# Altium integrated library NSC Voltage Reference.IntLib: 777 symbols (part 12 of 20)
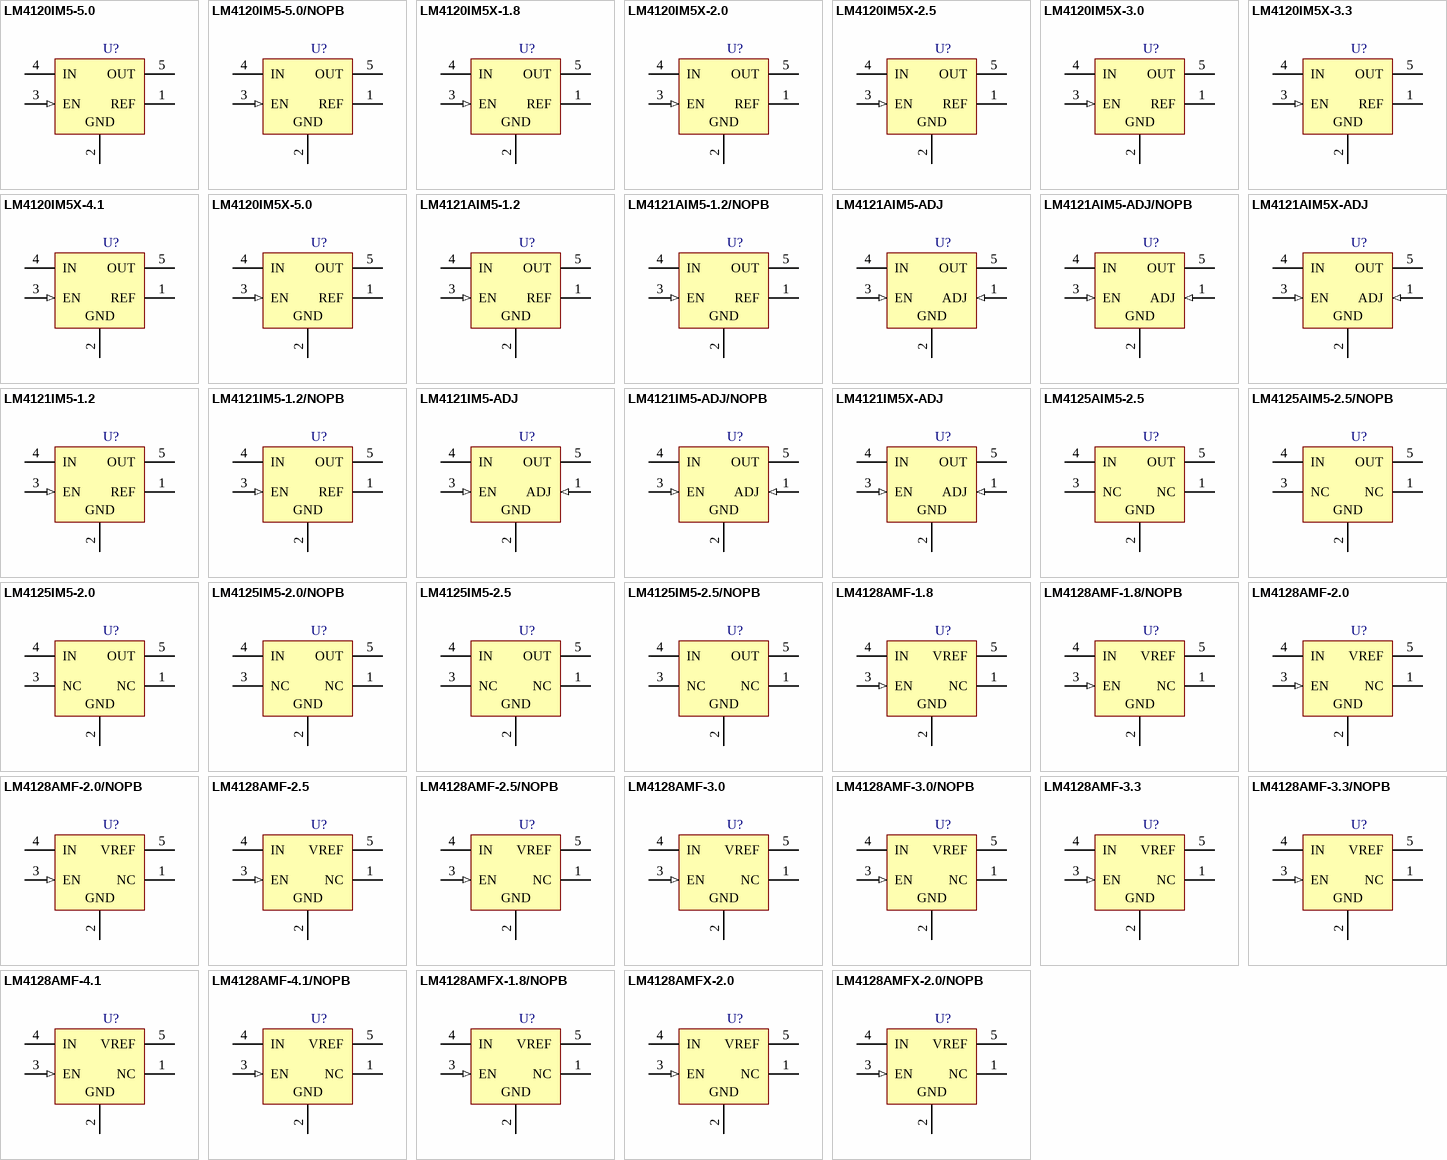
[diagram p31: symbols LM4120IM5-5.0 to LM4128AMFX-2.0/NOPB]

## LM4120IM5X-3.3
designator U?
Precision Micropower Low Dropout Voltage Reference, 5-pin SOT-23; PartNumber: LM4120IM5X-3.3; Manufacturer: National Semiconductor; PackageTopMarking: R16B*XTT; PowerWise: Y; CompType: Voltage Reference IC; Published: 1-Mar-2010; DatasheetVersion: Mar-2005; PackageVersion: revD, Aug-2008; PackageReference: MF05A; Publisher: Altium Limited; PackageDescription: Molded SOT-23, .115 x .063 x .040 in Body, 5 Lead, .0375 in Pitch; RoHS: N; PinCount: 5; ComponentLink1Description: LM4120 Datasheet; ComponentLink1URL: http://www.national.com/ds/LM/LM4120.pdf; ComponentLink2Description: LM4120 Web Page; ComponentLink2URL: http://www.national.com/pf/LM/LM4120.html; ComponentLink3Description: MF05A Package Page; ComponentLink3URL: http://www.national.com/packaging/folders/mf05a.html
footprint MF05A_N (SOT23, 5-Leads, Body 2.9x1.6mm, Pitch 0.95mm, Lead Span 2.8mm, IPC Medium Density)
footprint MF05A_L (SOT23, 5-Leads, Body 2.9x1.6mm, Pitch 0.95mm, Lead Span 2.8mm, IPC High Density)
footprint MF05A_M (SOT23, 5-Leads, Body 2.9x1.6mm, Pitch 0.95mm, Lead Span 2.8mm, IPC Low Density)
pins: 1 REF, 2 GND (power), 3 EN (in), 4 IN (power), 5 OUT (power)

## LM4120IM5X-4.1
designator U?
Precision Micropower Low Dropout Voltage Reference, 5-pin SOT-23; PartNumber: LM4120IM5X-4.1; Manufacturer: National Semiconductor; PackageTopMarking: R17B*XTT; PowerWise: Y; CompType: Voltage Reference IC; Published: 1-Mar-2010; DatasheetVersion: Mar-2005; PackageVersion: revD, Aug-2008; PackageReference: MF05A; Publisher: Altium Limited; PackageDescription: Molded SOT-23, .115 x .063 x .040 in Body, 5 Lead, .0375 in Pitch; RoHS: N; PinCount: 5; ComponentLink1Description: LM4120 Datasheet; ComponentLink1URL: http://www.national.com/ds/LM/LM4120.pdf; ComponentLink2Description: LM4120 Web Page; ComponentLink2URL: http://www.national.com/pf/LM/LM4120.html; ComponentLink3Description: MF05A Package Page; ComponentLink3URL: http://www.national.com/packaging/folders/mf05a.html
footprint MF05A_N (SOT23, 5-Leads, Body 2.9x1.6mm, Pitch 0.95mm, Lead Span 2.8mm, IPC Medium Density)
footprint MF05A_L (SOT23, 5-Leads, Body 2.9x1.6mm, Pitch 0.95mm, Lead Span 2.8mm, IPC High Density)
footprint MF05A_M (SOT23, 5-Leads, Body 2.9x1.6mm, Pitch 0.95mm, Lead Span 2.8mm, IPC Low Density)
pins: 1 REF, 2 GND (power), 3 EN (in), 4 IN (power), 5 OUT (power)

## LM4120IM5X-5.0
designator U?
Precision Micropower Low Dropout Voltage Reference, 5-pin SOT-23; PartNumber: LM4120IM5X-5.0; Manufacturer: National Semiconductor; PackageTopMarking: R18B*XTT; PowerWise: Y; CompType: Voltage Reference IC; Published: 1-Mar-2010; DatasheetVersion: Mar-2005; PackageVersion: revD, Aug-2008; PackageReference: MF05A; Publisher: Altium Limited; PackageDescription: Molded SOT-23, .115 x .063 x .040 in Body, 5 Lead, .0375 in Pitch; RoHS: N; PinCount: 5; ComponentLink1Description: LM4120 Datasheet; ComponentLink1URL: http://www.national.com/ds/LM/LM4120.pdf; ComponentLink2Description: LM4120 Web Page; ComponentLink2URL: http://www.national.com/pf/LM/LM4120.html; ComponentLink3Description: MF05A Package Page; ComponentLink3URL: http://www.national.com/packaging/folders/mf05a.html
footprint MF05A_N (SOT23, 5-Leads, Body 2.9x1.6mm, Pitch 0.95mm, Lead Span 2.8mm, IPC Medium Density)
footprint MF05A_L (SOT23, 5-Leads, Body 2.9x1.6mm, Pitch 0.95mm, Lead Span 2.8mm, IPC High Density)
footprint MF05A_M (SOT23, 5-Leads, Body 2.9x1.6mm, Pitch 0.95mm, Lead Span 2.8mm, IPC Low Density)
pins: 1 REF, 2 GND (power), 3 EN (in), 4 IN (power), 5 OUT (power)

## LM4121AIM5-1.2
designator U?
Precision Micropower Low Dropout Voltage Reference, 5-pin SOT-23; PartNumber: LM4121AIM5-1.2; Manufacturer: National Semiconductor; PackageTopMarking: R19A*XTT; PowerWise: Y; CompType: Voltage Reference IC; Published: 4-Dec-2008; DatasheetVersion: Apr-2000; PackageVersion: revD, Aug-2008; PackageReference: MF05A; Publisher: Altium Limited; PackageDescription: Molded SOT-23, .115 x .063 x .040 in Body, 5 Lead, .0375 in Pitch; RoHS: N; PinCount: 5; ComponentLink1Description: LM4121 Datasheet; ComponentLink1URL: http://www.national.com/ds/LM/LM4121.pdf; ComponentLink2Description: LM4121 Web Page; ComponentLink2URL: http://www.national.com/pf/LM/LM4121.html; ComponentLink3Description: MF05A Package Page; ComponentLink3URL: http://www.national.com/packaging/folders/mf05a.html
footprint MF05A_N (SOT23, 5-Leads, Body 2.9x1.6mm, Pitch 0.95mm, Lead Span 2.8mm, IPC Medium Density)
footprint MF05A_L (SOT23, 5-Leads, Body 2.9x1.6mm, Pitch 0.95mm, Lead Span 2.8mm, IPC High Density)
footprint MF05A_M (SOT23, 5-Leads, Body 2.9x1.6mm, Pitch 0.95mm, Lead Span 2.8mm, IPC Low Density)
pins: 1 REF, 2 GND (power), 3 EN (in), 4 IN (power), 5 OUT (power)

## LM4121AIM5-1.2/NOPB
designator U?
Precision Micropower Low Dropout Voltage Reference, 5-pin SOT-23, Pb-Free; PartNumber: LM4121AIM5-1.2/NOPB; Manufacturer: National Semiconductor; PackageTopMarking: R19A*XTT; PowerWise: Y; CompType: Voltage Reference IC; Published: 1-Mar-2010; DatasheetVersion: Apr-2000; PackageVersion: revD, Aug-2008; PackageReference: MF05A; Publisher: Altium Limited; PackageDescription: Molded SOT-23, .115 x .063 x .040 in Body, 5 Lead, .0375 in Pitch; Supplier 1: Digi-Key; Supplier Part Number 1: LM4121AIM5-1.2TR-ND; Supplier 2: Digi-Key; Supplier Part Number 2: LM4121AIM5-1.2CT-ND; Supplier 3: Digi-Key; Supplier Part Number 3: LM4121AIM5-1.2DKR-ND; Supplier 4: Farnell; Supplier Part Number 4: 1674008; RoHS: Y; PinCount: 5; ComponentLink1Description: LM4121 Datasheet; ComponentLink1URL: http://www.national.com/ds/LM/LM4121.pdf; ComponentLink2Description: LM4121 Web Page; ComponentLink2URL: http://www.national.com/pf/LM/LM4121.html; ComponentLink3Description: MF05A Package Page; ComponentLink3URL: http://www.national.com/packaging/folders/mf05a.html
footprint MF05A_N (SOT23, 5-Leads, Body 2.9x1.6mm, Pitch 0.95mm, Lead Span 2.8mm, IPC Medium Density)
footprint MF05A_L (SOT23, 5-Leads, Body 2.9x1.6mm, Pitch 0.95mm, Lead Span 2.8mm, IPC High Density)
footprint MF05A_M (SOT23, 5-Leads, Body 2.9x1.6mm, Pitch 0.95mm, Lead Span 2.8mm, IPC Low Density)
pins: 1 REF, 2 GND (power), 3 EN (in), 4 IN (power), 5 OUT (power)

## LM4121AIM5-ADJ
designator U?
Precision Micropower Low Dropout Voltage Reference, 5-pin SOT-23; PartNumber: LM4121AIM5-ADJ; Manufacturer: National Semiconductor; PackageTopMarking: R20A*XTT; PowerWise: Y; CompType: Voltage Reference IC; Published: 4-Dec-2008; DatasheetVersion: Apr-2000; PackageVersion: revD, Aug-2008; PackageReference: MF05A; Publisher: Altium Limited; PackageDescription: Molded SOT-23, .115 x .063 x .040 in Body, 5 Lead, .0375 in Pitch; RoHS: N; PinCount: 5; ComponentLink1Description: LM4121 Datasheet; ComponentLink1URL: http://www.national.com/ds/LM/LM4121.pdf; ComponentLink2Description: LM4121 Web Page; ComponentLink2URL: http://www.national.com/pf/LM/LM4121.html; ComponentLink3Description: MF05A Package Page; ComponentLink3URL: http://www.national.com/packaging/folders/mf05a.html
footprint MF05A_N (SOT23, 5-Leads, Body 2.9x1.6mm, Pitch 0.95mm, Lead Span 2.8mm, IPC Medium Density)
footprint MF05A_L (SOT23, 5-Leads, Body 2.9x1.6mm, Pitch 0.95mm, Lead Span 2.8mm, IPC High Density)
footprint MF05A_M (SOT23, 5-Leads, Body 2.9x1.6mm, Pitch 0.95mm, Lead Span 2.8mm, IPC Low Density)
pins: 1 ADJ (in), 2 GND (power), 3 EN (in), 4 IN (power), 5 OUT (power)

## LM4121AIM5-ADJ/NOPB
designator U?
Precision Micropower Low Dropout Voltage Reference, 5-pin SOT-23, Pb-Free; PartNumber: LM4121AIM5-ADJ/NOPB; Manufacturer: National Semiconductor; PackageTopMarking: R20A*XTT; PowerWise: Y; CompType: Voltage Reference IC; Published: 1-Mar-2010; DatasheetVersion: Apr-2000; PackageVersion: revD, Aug-2008; PackageReference: MF05A; Publisher: Altium Limited; PackageDescription: Molded SOT-23, .115 x .063 x .040 in Body, 5 Lead, .0375 in Pitch; Supplier 1: Digi-Key; Supplier Part Number 1: LM4121AIM5-ADJTR-ND; Supplier 2: Digi-Key; Supplier Part Number 2: LM4121AIM5-ADJCT-ND; Supplier 3: Digi-Key; Supplier Part Number 3: LM4121AIM5-ADJDKR-ND; Supplier 4: Farnell; Supplier Part Number 4: 1674007; RoHS: Y; PinCount: 5; ComponentLink1Description: LM4121 Datasheet; ComponentLink1URL: http://www.national.com/ds/LM/LM4121.pdf; ComponentLink2Description: LM4121 Web Page; ComponentLink2URL: http://www.national.com/pf/LM/LM4121.html; ComponentLink3Description: MF05A Package Page; ComponentLink3URL: http://www.national.com/packaging/folders/mf05a.html
footprint MF05A_N (SOT23, 5-Leads, Body 2.9x1.6mm, Pitch 0.95mm, Lead Span 2.8mm, IPC Medium Density)
footprint MF05A_L (SOT23, 5-Leads, Body 2.9x1.6mm, Pitch 0.95mm, Lead Span 2.8mm, IPC High Density)
footprint MF05A_M (SOT23, 5-Leads, Body 2.9x1.6mm, Pitch 0.95mm, Lead Span 2.8mm, IPC Low Density)
pins: 1 ADJ (in), 2 GND (power), 3 EN (in), 4 IN (power), 5 OUT (power)

## LM4121AIM5X-ADJ
designator U?
Precision Micropower Low Dropout Voltage Reference, 5-pin SOT-23; PartNumber: LM4121AIM5X-ADJ; Manufacturer: National Semiconductor; PackageTopMarking: R20A*XTT; PowerWise: Y; CompType: Voltage Reference IC; Published: 1-Mar-2010; DatasheetVersion: Apr-2000; PackageVersion: revD, Aug-2008; PackageReference: MF05A; Publisher: Altium Limited; PackageDescription: Molded SOT-23, .115 x .063 x .040 in Body, 5 Lead, .0375 in Pitch; RoHS: N; PinCount: 5; ComponentLink1Description: LM4121 Datasheet; ComponentLink1URL: http://www.national.com/ds/LM/LM4121.pdf; ComponentLink2Description: LM4121 Web Page; ComponentLink2URL: http://www.national.com/pf/LM/LM4121.html; ComponentLink3Description: MF05A Package Page; ComponentLink3URL: http://www.national.com/packaging/folders/mf05a.html
footprint MF05A_N (SOT23, 5-Leads, Body 2.9x1.6mm, Pitch 0.95mm, Lead Span 2.8mm, IPC Medium Density)
footprint MF05A_L (SOT23, 5-Leads, Body 2.9x1.6mm, Pitch 0.95mm, Lead Span 2.8mm, IPC High Density)
footprint MF05A_M (SOT23, 5-Leads, Body 2.9x1.6mm, Pitch 0.95mm, Lead Span 2.8mm, IPC Low Density)
pins: 1 ADJ (in), 2 GND (power), 3 EN (in), 4 IN (power), 5 OUT (power)

## LM4121IM5-1.2
designator U?
Precision Micropower Low Dropout Voltage Reference, 5-pin SOT-23; PartNumber: LM4121IM5-1.2; Manufacturer: National Semiconductor; PackageTopMarking: R19B*XTT; PowerWise: Y; CompType: Voltage Reference IC; Published: 4-Dec-2008; DatasheetVersion: Apr-2000; PackageVersion: revD, Aug-2008; PackageReference: MF05A; Publisher: Altium Limited; PackageDescription: Molded SOT-23, .115 x .063 x .040 in Body, 5 Lead, .0375 in Pitch; RoHS: N; PinCount: 5; ComponentLink1Description: LM4121 Datasheet; ComponentLink1URL: http://www.national.com/ds/LM/LM4121.pdf; ComponentLink2Description: LM4121 Web Page; ComponentLink2URL: http://www.national.com/pf/LM/LM4121.html; ComponentLink3Description: MF05A Package Page; ComponentLink3URL: http://www.national.com/packaging/folders/mf05a.html
footprint MF05A_N (SOT23, 5-Leads, Body 2.9x1.6mm, Pitch 0.95mm, Lead Span 2.8mm, IPC Medium Density)
footprint MF05A_L (SOT23, 5-Leads, Body 2.9x1.6mm, Pitch 0.95mm, Lead Span 2.8mm, IPC High Density)
footprint MF05A_M (SOT23, 5-Leads, Body 2.9x1.6mm, Pitch 0.95mm, Lead Span 2.8mm, IPC Low Density)
pins: 1 REF, 2 GND (power), 3 EN (in), 4 IN (power), 5 OUT (power)

## LM4121IM5-1.2/NOPB
designator U?
Precision Micropower Low Dropout Voltage Reference, 5-pin SOT-23, Pb-Free; PartNumber: LM4121IM5-1.2/NOPB; Manufacturer: National Semiconductor; PackageTopMarking: R19B*XTT; PowerWise: Y; CompType: Voltage Reference IC; Published: 1-Mar-2010; DatasheetVersion: Apr-2000; PackageVersion: revD, Aug-2008; PackageReference: MF05A; Publisher: Altium Limited; PackageDescription: Molded SOT-23, .115 x .063 x .040 in Body, 5 Lead, .0375 in Pitch; Supplier 1: Digi-Key; Supplier Part Number 1: LM4121IM5-1.2TR-ND; Supplier 2: Digi-Key; Supplier Part Number 2: LM4121IM5-1.2CT-ND; Supplier 3: Digi-Key; Supplier Part Number 3: LM4121IM5-1.2DKR-ND; RoHS: Y; PinCount: 5; ComponentLink1Description: LM4121 Datasheet; ComponentLink1URL: http://www.national.com/ds/LM/LM4121.pdf; ComponentLink2Description: LM4121 Web Page; ComponentLink2URL: http://www.national.com/pf/LM/LM4121.html; ComponentLink3Description: MF05A Package Page; ComponentLink3URL: http://www.national.com/packaging/folders/mf05a.html
footprint MF05A_N (SOT23, 5-Leads, Body 2.9x1.6mm, Pitch 0.95mm, Lead Span 2.8mm, IPC Medium Density)
footprint MF05A_L (SOT23, 5-Leads, Body 2.9x1.6mm, Pitch 0.95mm, Lead Span 2.8mm, IPC High Density)
footprint MF05A_M (SOT23, 5-Leads, Body 2.9x1.6mm, Pitch 0.95mm, Lead Span 2.8mm, IPC Low Density)
pins: 1 REF, 2 GND (power), 3 EN (in), 4 IN (power), 5 OUT (power)

## LM4121IM5-ADJ
designator U?
Precision Micropower Low Dropout Voltage Reference, 5-pin SOT-23; PartNumber: LM4121IM5-ADJ; Manufacturer: National Semiconductor; PackageTopMarking: R20B*XTT; PowerWise: Y; CompType: Voltage Reference IC; Published: 4-Dec-2008; DatasheetVersion: Apr-2000; PackageVersion: revD, Aug-2008; PackageReference: MF05A; Publisher: Altium Limited; PackageDescription: Molded SOT-23, .115 x .063 x .040 in Body, 5 Lead, .0375 in Pitch; RoHS: N; PinCount: 5; ComponentLink1Description: LM4121 Datasheet; ComponentLink1URL: http://www.national.com/ds/LM/LM4121.pdf; ComponentLink2Description: LM4121 Web Page; ComponentLink2URL: http://www.national.com/pf/LM/LM4121.html; ComponentLink3Description: MF05A Package Page; ComponentLink3URL: http://www.national.com/packaging/folders/mf05a.html
footprint MF05A_N (SOT23, 5-Leads, Body 2.9x1.6mm, Pitch 0.95mm, Lead Span 2.8mm, IPC Medium Density)
footprint MF05A_L (SOT23, 5-Leads, Body 2.9x1.6mm, Pitch 0.95mm, Lead Span 2.8mm, IPC High Density)
footprint MF05A_M (SOT23, 5-Leads, Body 2.9x1.6mm, Pitch 0.95mm, Lead Span 2.8mm, IPC Low Density)
pins: 1 ADJ (in), 2 GND (power), 3 EN (in), 4 IN (power), 5 OUT (power)

## LM4121IM5-ADJ/NOPB
designator U?
Precision Micropower Low Dropout Voltage Reference, 5-pin SOT-23, Pb-Free; PartNumber: LM4121IM5-ADJ/NOPB; Manufacturer: National Semiconductor; PackageTopMarking: R20B*XTT; PowerWise: Y; CompType: Voltage Reference IC; Published: 1-Mar-2010; DatasheetVersion: Apr-2000; PackageVersion: revD, Aug-2008; PackageReference: MF05A; Publisher: Altium Limited; PackageDescription: Molded SOT-23, .115 x .063 x .040 in Body, 5 Lead, .0375 in Pitch; Supplier 1: Digi-Key; Supplier Part Number 1: LM4121IM5-ADJTR-ND; Supplier 2: Digi-Key; Supplier Part Number 2: LM4121IM5-ADJCT-ND; Supplier 3: Digi-Key; Supplier Part Number 3: LM4121IM5-ADJDKR-ND; Supplier 4: Farnell; Supplier Part Number 4: 1694536; RoHS: Y; PinCount: 5; ComponentLink1Description: LM4121 Datasheet; ComponentLink1URL: http://www.national.com/ds/LM/LM4121.pdf; ComponentLink2Description: LM4121 Web Page; ComponentLink2URL: http://www.national.com/pf/LM/LM4121.html; ComponentLink3Description: MF05A Package Page; ComponentLink3URL: http://www.national.com/packaging/folders/mf05a.html
footprint MF05A_N (SOT23, 5-Leads, Body 2.9x1.6mm, Pitch 0.95mm, Lead Span 2.8mm, IPC Medium Density)
footprint MF05A_L (SOT23, 5-Leads, Body 2.9x1.6mm, Pitch 0.95mm, Lead Span 2.8mm, IPC High Density)
footprint MF05A_M (SOT23, 5-Leads, Body 2.9x1.6mm, Pitch 0.95mm, Lead Span 2.8mm, IPC Low Density)
pins: 1 ADJ (in), 2 GND (power), 3 EN (in), 4 IN (power), 5 OUT (power)

## LM4121IM5X-ADJ
designator U?
Precision Micropower Low Dropout Voltage Reference, 5-pin SOT-23; PartNumber: LM4121IM5X-ADJ; Manufacturer: National Semiconductor; PackageTopMarking: R20B*XTT; PowerWise: Y; CompType: Voltage Reference IC; Published: 1-Mar-2010; DatasheetVersion: Apr-2000; PackageVersion: revD, Aug-2008; PackageReference: MF05A; Publisher: Altium Limited; PackageDescription: Molded SOT-23, .115 x .063 x .040 in Body, 5 Lead, .0375 in Pitch; RoHS: N; PinCount: 5; ComponentLink1Description: LM4121 Datasheet; ComponentLink1URL: http://www.national.com/ds/LM/LM4121.pdf; ComponentLink2Description: LM4121 Web Page; ComponentLink2URL: http://www.national.com/pf/LM/LM4121.html; ComponentLink3Description: MF05A Package Page; ComponentLink3URL: http://www.national.com/packaging/folders/mf05a.html
footprint MF05A_N (SOT23, 5-Leads, Body 2.9x1.6mm, Pitch 0.95mm, Lead Span 2.8mm, IPC Medium Density)
footprint MF05A_L (SOT23, 5-Leads, Body 2.9x1.6mm, Pitch 0.95mm, Lead Span 2.8mm, IPC High Density)
footprint MF05A_M (SOT23, 5-Leads, Body 2.9x1.6mm, Pitch 0.95mm, Lead Span 2.8mm, IPC Low Density)
pins: 1 ADJ (in), 2 GND (power), 3 EN (in), 4 IN (power), 5 OUT (power)

## LM4125AIM5-2.5
designator U?
Precision Micropower Low Dropout Voltage Reference, 5-pin SOT-23; PartNumber: LM4125AIM5-2.5; Manufacturer: National Semiconductor; PackageTopMarking: R81A*XTT; PowerWise: Y; CompType: Voltage Reference IC; Published: 4-Dec-2008; DatasheetVersion: Nov-2003; PackageVersion: revD, Aug-2008; PackageReference: MF05A; Publisher: Altium Limited; PackageDescription: Molded SOT-23, .115 x .063 x .040 in Body, 5 Lead, .0375 in Pitch; Supplier 1: Farnell; Supplier Part Number 1: 8180628; RoHS: N; PinCount: 5; ComponentLink1Description: LM4125 Datasheet; ComponentLink1URL: http://www.national.com/ds/LM/LM4125.pdf; ComponentLink2Description: LM4125 Web Page; ComponentLink2URL: http://www.national.com/pf/LM/LM4125.html; ComponentLink3Description: MF05A Package Page; ComponentLink3URL: http://www.national.com/packaging/folders/mf05a.html
footprint MF05A_N (SOT23, 5-Leads, Body 2.9x1.6mm, Pitch 0.95mm, Lead Span 2.8mm, IPC Medium Density)
footprint MF05A_L (SOT23, 5-Leads, Body 2.9x1.6mm, Pitch 0.95mm, Lead Span 2.8mm, IPC High Density)
footprint MF05A_M (SOT23, 5-Leads, Body 2.9x1.6mm, Pitch 0.95mm, Lead Span 2.8mm, IPC Low Density)
pins: 1 NC, 2 GND (power), 3 NC, 4 IN (power), 5 OUT (power)

## LM4125AIM5-2.5/NOPB
designator U?
Precision Micropower Low Dropout Voltage Reference, 5-pin SOT-23, Pb-Free; PartNumber: LM4125AIM5-2.5/NOPB; Manufacturer: National Semiconductor; PackageTopMarking: R81A*XTT; PowerWise: Y; CompType: Voltage Reference IC; Published: 1-Mar-2010; DatasheetVersion: Nov-2003; PackageVersion: revD, Aug-2008; PackageReference: MF05A; Publisher: Altium Limited; PackageDescription: Molded SOT-23, .115 x .063 x .040 in Body, 5 Lead, .0375 in Pitch; Supplier 1: Digi-Key; Supplier Part Number 1: LM4125AIM5-2.5TR-ND; Supplier 2: Digi-Key; Supplier Part Number 2: LM4125AIM5-2.5CT-ND; Supplier 3: Digi-Key; Supplier Part Number 3: LM4125AIM5-2.5DKR-ND; RoHS: Y; PinCount: 5; ComponentLink1Description: LM4125 Datasheet; ComponentLink1URL: http://www.national.com/ds/LM/LM4125.pdf; ComponentLink2Description: LM4125 Web Page; ComponentLink2URL: http://www.national.com/pf/LM/LM4125.html; ComponentLink3Description: MF05A Package Page; ComponentLink3URL: http://www.national.com/packaging/folders/mf05a.html
footprint MF05A_N (SOT23, 5-Leads, Body 2.9x1.6mm, Pitch 0.95mm, Lead Span 2.8mm, IPC Medium Density)
footprint MF05A_L (SOT23, 5-Leads, Body 2.9x1.6mm, Pitch 0.95mm, Lead Span 2.8mm, IPC High Density)
footprint MF05A_M (SOT23, 5-Leads, Body 2.9x1.6mm, Pitch 0.95mm, Lead Span 2.8mm, IPC Low Density)
pins: 1 NC, 2 GND (power), 3 NC, 4 IN (power), 5 OUT (power)

## LM4125IM5-2.0
designator U?
Precision Micropower Low Dropout Voltage Reference, 5-pin SOT-23; PartNumber: LM4125IM5-2.0; Manufacturer: National Semiconductor; PackageTopMarking: R80B*XTT; PowerWise: Y; CompType: Voltage Reference IC; Published: 4-Dec-2008; DatasheetVersion: Nov-2003; PackageVersion: revD, Aug-2008; PackageReference: MF05A; Publisher: Altium Limited; PackageDescription: Molded SOT-23, .115 x .063 x .040 in Body, 5 Lead, .0375 in Pitch; Supplier 1: Farnell; Supplier Part Number 1: 8180644; RoHS: N; PinCount: 5; ComponentLink1Description: LM4125 Datasheet; ComponentLink1URL: http://www.national.com/ds/LM/LM4125.pdf; ComponentLink2Description: LM4125 Web Page; ComponentLink2URL: http://www.national.com/pf/LM/LM4125.html; ComponentLink3Description: MF05A Package Page; ComponentLink3URL: http://www.national.com/packaging/folders/mf05a.html
footprint MF05A_N (SOT23, 5-Leads, Body 2.9x1.6mm, Pitch 0.95mm, Lead Span 2.8mm, IPC Medium Density)
footprint MF05A_L (SOT23, 5-Leads, Body 2.9x1.6mm, Pitch 0.95mm, Lead Span 2.8mm, IPC High Density)
footprint MF05A_M (SOT23, 5-Leads, Body 2.9x1.6mm, Pitch 0.95mm, Lead Span 2.8mm, IPC Low Density)
pins: 1 NC, 2 GND (power), 3 NC, 4 IN (power), 5 OUT (power)

## LM4125IM5-2.0/NOPB
designator U?
Precision Micropower Low Dropout Voltage Reference, 5-pin SOT-23, Pb-Free; PartNumber: LM4125IM5-2.0/NOPB; Manufacturer: National Semiconductor; PackageTopMarking: R80B*XTT; PowerWise: Y; CompType: Voltage Reference IC; Published: 1-Mar-2010; DatasheetVersion: Nov-2003; PackageVersion: revD, Aug-2008; PackageReference: MF05A; Publisher: Altium Limited; PackageDescription: Molded SOT-23, .115 x .063 x .040 in Body, 5 Lead, .0375 in Pitch; Supplier 1: Digi-Key; Supplier Part Number 1: LM4125IM5-2.0TR-ND; Supplier 2: Digi-Key; Supplier Part Number 2: LM4125IM5-2.0CT-ND; Supplier 3: Digi-Key; Supplier Part Number 3: LM4125IM5-2.0DKR-ND; RoHS: Y; PinCount: 5; ComponentLink1Description: LM4125 Datasheet; ComponentLink1URL: http://www.national.com/ds/LM/LM4125.pdf; ComponentLink2Description: LM4125 Web Page; ComponentLink2URL: http://www.national.com/pf/LM/LM4125.html; ComponentLink3Description: MF05A Package Page; ComponentLink3URL: http://www.national.com/packaging/folders/mf05a.html
footprint MF05A_N (SOT23, 5-Leads, Body 2.9x1.6mm, Pitch 0.95mm, Lead Span 2.8mm, IPC Medium Density)
footprint MF05A_L (SOT23, 5-Leads, Body 2.9x1.6mm, Pitch 0.95mm, Lead Span 2.8mm, IPC High Density)
footprint MF05A_M (SOT23, 5-Leads, Body 2.9x1.6mm, Pitch 0.95mm, Lead Span 2.8mm, IPC Low Density)
pins: 1 NC, 2 GND (power), 3 NC, 4 IN (power), 5 OUT (power)

## LM4125IM5-2.5
designator U?
Precision Micropower Low Dropout Voltage Reference, 5-pin SOT-23; PartNumber: LM4125IM5-2.5; Manufacturer: National Semiconductor; PackageTopMarking: R81B*XTT; PowerWise: Y; CompType: Voltage Reference IC; Published: 4-Dec-2008; DatasheetVersion: Nov-2003; PackageVersion: revD, Aug-2008; PackageReference: MF05A; Publisher: Altium Limited; PackageDescription: Molded SOT-23, .115 x .063 x .040 in Body, 5 Lead, .0375 in Pitch; Supplier 1: Digi-Key; Supplier Part Number 1: LM4125IM5-2.5TR-ND; Supplier 2: Digi-Key; Supplier Part Number 2: LM4125IM5-2.5CT-ND; Supplier 3: Digi-Key; Supplier Part Number 3: LM4125IM5-2.5DKR-ND; Supplier 4: Farnell; Supplier Part Number 4: 8180652; RoHS: N; PinCount: 5; ComponentLink1Description: LM4125 Datasheet; ComponentLink1URL: http://www.national.com/ds/LM/LM4125.pdf; ComponentLink2Description: LM4125 Web Page; ComponentLink2URL: http://www.national.com/pf/LM/LM4125.html; ComponentLink3Description: MF05A Package Page; ComponentLink3URL: http://www.national.com/packaging/folders/mf05a.html
footprint MF05A_N (SOT23, 5-Leads, Body 2.9x1.6mm, Pitch 0.95mm, Lead Span 2.8mm, IPC Medium Density)
footprint MF05A_L (SOT23, 5-Leads, Body 2.9x1.6mm, Pitch 0.95mm, Lead Span 2.8mm, IPC High Density)
footprint MF05A_M (SOT23, 5-Leads, Body 2.9x1.6mm, Pitch 0.95mm, Lead Span 2.8mm, IPC Low Density)
pins: 1 NC, 2 GND (power), 3 NC, 4 IN (power), 5 OUT (power)

## LM4125IM5-2.5/NOPB
designator U?
Precision Micropower Low Dropout Voltage Reference, 5-pin SOT-23, Pb-Free; PartNumber: LM4125IM5-2.5/NOPB; Manufacturer: National Semiconductor; PackageTopMarking: R81B*XTT; PowerWise: Y; CompType: Voltage Reference IC; Published: 1-Mar-2010; DatasheetVersion: Nov-2003; PackageVersion: revD, Aug-2008; PackageReference: MF05A; Publisher: Altium Limited; PackageDescription: Molded SOT-23, .115 x .063 x .040 in Body, 5 Lead, .0375 in Pitch; RoHS: Y; PinCount: 5; ComponentLink1Description: LM4125 Datasheet; ComponentLink1URL: http://www.national.com/ds/LM/LM4125.pdf; ComponentLink2Description: LM4125 Web Page; ComponentLink2URL: http://www.national.com/pf/LM/LM4125.html; ComponentLink3Description: MF05A Package Page; ComponentLink3URL: http://www.national.com/packaging/folders/mf05a.html
footprint MF05A_N (SOT23, 5-Leads, Body 2.9x1.6mm, Pitch 0.95mm, Lead Span 2.8mm, IPC Medium Density)
footprint MF05A_L (SOT23, 5-Leads, Body 2.9x1.6mm, Pitch 0.95mm, Lead Span 2.8mm, IPC High Density)
footprint MF05A_M (SOT23, 5-Leads, Body 2.9x1.6mm, Pitch 0.95mm, Lead Span 2.8mm, IPC Low Density)
pins: 1 NC, 2 GND (power), 3 NC, 4 IN (power), 5 OUT (power)

## LM4128AMF-1.8
designator U?
Precision Micropower Series Voltage Reference, 5-pin SOT-23; PartNumber: LM4128AMF-1.8; Manufacturer: National Semiconductor; PackageTopMarking: R5AA*XTT; PowerWise: Y; CompType: Voltage Reference IC; Published: 4-Dec-2008; DatasheetVersion: Nov-2006; PackageVersion: revD, Aug-2008; PackageReference: MF05A; Publisher: Altium Limited; PackageDescription: Molded SOT-23, .115 x .063 x .040 in Body, 5 Lead, .0375 in Pitch; RoHS: N; PinCount: 5; ComponentLink1Description: LM4128 Datasheet; ComponentLink1URL: http://www.national.com/ds/LM/LM4128.pdf; ComponentLink2Description: LM4128 Web Page; ComponentLink2URL: http://www.national.com/pf/LM/LM4128.html; ComponentLink3Description: MF05A Package Page; ComponentLink3URL: http://www.national.com/packaging/folders/mf05a.html
footprint MF05A_N (SOT23, 5-Leads, Body 2.9x1.6mm, Pitch 0.95mm, Lead Span 2.8mm, IPC Medium Density)
footprint MF05A_L (SOT23, 5-Leads, Body 2.9x1.6mm, Pitch 0.95mm, Lead Span 2.8mm, IPC High Density)
footprint MF05A_M (SOT23, 5-Leads, Body 2.9x1.6mm, Pitch 0.95mm, Lead Span 2.8mm, IPC Low Density)
pins: 1 NC, 2 GND (power), 3 EN (in), 4 IN (power), 5 VREF (power)

## LM4128AMF-1.8/NOPB
designator U?
Precision Micropower Series Voltage Reference, 5-pin SOT-23, Pb-Free; PartNumber: LM4128AMF-1.8/NOPB; Manufacturer: National Semiconductor; PackageTopMarking: R5AA*XTT; PowerWise: Y; CompType: Voltage Reference IC; Published: 1-Mar-2010; DatasheetVersion: Nov-2006; PackageVersion: revD, Aug-2008; PackageReference: MF05A; Publisher: Altium Limited; PackageDescription: Molded SOT-23, .115 x .063 x .040 in Body, 5 Lead, .0375 in Pitch; Supplier 1: Digi-Key; Supplier Part Number 1: LM4128AMF-1.8TR-ND; Supplier 2: Digi-Key; Supplier Part Number 2: LM4128AMF-1.8CT-ND; Supplier 3: Digi-Key; Supplier Part Number 3: LM4128AMF-1.8DKR-ND; RoHS: Y; PinCount: 5; ComponentLink1Description: LM4128 Datasheet; ComponentLink1URL: http://www.national.com/ds/LM/LM4128.pdf; ComponentLink2Description: LM4128 Web Page; ComponentLink2URL: http://www.national.com/pf/LM/LM4128.html; ComponentLink3Description: MF05A Package Page; ComponentLink3URL: http://www.national.com/packaging/folders/mf05a.html
footprint MF05A_N (SOT23, 5-Leads, Body 2.9x1.6mm, Pitch 0.95mm, Lead Span 2.8mm, IPC Medium Density)
footprint MF05A_L (SOT23, 5-Leads, Body 2.9x1.6mm, Pitch 0.95mm, Lead Span 2.8mm, IPC High Density)
footprint MF05A_M (SOT23, 5-Leads, Body 2.9x1.6mm, Pitch 0.95mm, Lead Span 2.8mm, IPC Low Density)
pins: 1 NC, 2 GND (power), 3 EN (in), 4 IN (power), 5 VREF (power)

## LM4128AMF-2.0
designator U?
Precision Micropower Series Voltage Reference, 5-pin SOT-23; PartNumber: LM4128AMF-2.0; Manufacturer: National Semiconductor; PackageTopMarking: R5BA*XTT; PowerWise: Y; CompType: Voltage Reference IC; Published: 4-Dec-2008; DatasheetVersion: Nov-2006; PackageVersion: revD, Aug-2008; PackageReference: MF05A; Publisher: Altium Limited; PackageDescription: Molded SOT-23, .115 x .063 x .040 in Body, 5 Lead, .0375 in Pitch; RoHS: N; PinCount: 5; ComponentLink1Description: LM4128 Datasheet; ComponentLink1URL: http://www.national.com/ds/LM/LM4128.pdf; ComponentLink2Description: LM4128 Web Page; ComponentLink2URL: http://www.national.com/pf/LM/LM4128.html; ComponentLink3Description: MF05A Package Page; ComponentLink3URL: http://www.national.com/packaging/folders/mf05a.html
footprint MF05A_N (SOT23, 5-Leads, Body 2.9x1.6mm, Pitch 0.95mm, Lead Span 2.8mm, IPC Medium Density)
footprint MF05A_L (SOT23, 5-Leads, Body 2.9x1.6mm, Pitch 0.95mm, Lead Span 2.8mm, IPC High Density)
footprint MF05A_M (SOT23, 5-Leads, Body 2.9x1.6mm, Pitch 0.95mm, Lead Span 2.8mm, IPC Low Density)
pins: 1 NC, 2 GND (power), 3 EN (in), 4 IN (power), 5 VREF (power)

## LM4128AMF-2.0/NOPB
designator U?
Precision Micropower Series Voltage Reference, 5-pin SOT-23, Pb-Free; PartNumber: LM4128AMF-2.0/NOPB; Manufacturer: National Semiconductor; PackageTopMarking: R5BA*XTT; PowerWise: Y; CompType: Voltage Reference IC; Published: 1-Mar-2010; DatasheetVersion: Nov-2006; PackageVersion: revD, Aug-2008; PackageReference: MF05A; Publisher: Altium Limited; PackageDescription: Molded SOT-23, .115 x .063 x .040 in Body, 5 Lead, .0375 in Pitch; Supplier 1: Digi-Key; Supplier Part Number 1: LM4128AMF-2.0TR-ND; Supplier 2: Digi-Key; Supplier Part Number 2: LM4128AMF-2.0CT-ND; Supplier 3: Digi-Key; Supplier Part Number 3: LM4128AMF-2.0DKR-ND; RoHS: Y; PinCount: 5; ComponentLink1Description: LM4128 Datasheet; ComponentLink1URL: http://www.national.com/ds/LM/LM4128.pdf; ComponentLink2Description: LM4128 Web Page; ComponentLink2URL: http://www.national.com/pf/LM/LM4128.html; ComponentLink3Description: MF05A Package Page; ComponentLink3URL: http://www.national.com/packaging/folders/mf05a.html
footprint MF05A_N (SOT23, 5-Leads, Body 2.9x1.6mm, Pitch 0.95mm, Lead Span 2.8mm, IPC Medium Density)
footprint MF05A_L (SOT23, 5-Leads, Body 2.9x1.6mm, Pitch 0.95mm, Lead Span 2.8mm, IPC High Density)
footprint MF05A_M (SOT23, 5-Leads, Body 2.9x1.6mm, Pitch 0.95mm, Lead Span 2.8mm, IPC Low Density)
pins: 1 NC, 2 GND (power), 3 EN (in), 4 IN (power), 5 VREF (power)

## LM4128AMF-2.5
designator U?
Precision Micropower Series Voltage Reference, 5-pin SOT-23; PartNumber: LM4128AMF-2.5; Manufacturer: National Semiconductor; PackageTopMarking: R5CA*XTT; PowerWise: Y; CompType: Voltage Reference IC; Published: 4-Dec-2008; DatasheetVersion: Nov-2006; PackageVersion: revD, Aug-2008; PackageReference: MF05A; Publisher: Altium Limited; PackageDescription: Molded SOT-23, .115 x .063 x .040 in Body, 5 Lead, .0375 in Pitch; RoHS: N; PinCount: 5; ComponentLink1Description: LM4128 Datasheet; ComponentLink1URL: http://www.national.com/ds/LM/LM4128.pdf; ComponentLink2Description: LM4128 Web Page; ComponentLink2URL: http://www.national.com/pf/LM/LM4128.html; ComponentLink3Description: MF05A Package Page; ComponentLink3URL: http://www.national.com/packaging/folders/mf05a.html
footprint MF05A_N (SOT23, 5-Leads, Body 2.9x1.6mm, Pitch 0.95mm, Lead Span 2.8mm, IPC Medium Density)
footprint MF05A_L (SOT23, 5-Leads, Body 2.9x1.6mm, Pitch 0.95mm, Lead Span 2.8mm, IPC High Density)
footprint MF05A_M (SOT23, 5-Leads, Body 2.9x1.6mm, Pitch 0.95mm, Lead Span 2.8mm, IPC Low Density)
pins: 1 NC, 2 GND (power), 3 EN (in), 4 IN (power), 5 VREF (power)

## LM4128AMF-2.5/NOPB
designator U?
Precision Micropower Series Voltage Reference, 5-pin SOT-23, Pb-Free; PartNumber: LM4128AMF-2.5/NOPB; Manufacturer: National Semiconductor; PackageTopMarking: R5CA*XTT; PowerWise: Y; CompType: Voltage Reference IC; Published: 1-Mar-2010; DatasheetVersion: Nov-2006; PackageVersion: revD, Aug-2008; PackageReference: MF05A; Publisher: Altium Limited; PackageDescription: Molded SOT-23, .115 x .063 x .040 in Body, 5 Lead, .0375 in Pitch; Supplier 1: Digi-Key; Supplier Part Number 1: LM4128AMF-2.5TR-ND; Supplier 2: Digi-Key; Supplier Part Number 2: LM4128AMF-2.5CT-ND; Supplier 3: Digi-Key; Supplier Part Number 3: LM4128AMF-2.5DKR-ND; Supplier 4: Farnell; Supplier Part Number 4: 1673954; RoHS: Y; PinCount: 5; ComponentLink1Description: LM4128 Datasheet; ComponentLink1URL: http://www.national.com/ds/LM/LM4128.pdf; ComponentLink2Description: LM4128 Web Page; ComponentLink2URL: http://www.national.com/pf/LM/LM4128.html; ComponentLink3Description: MF05A Package Page; ComponentLink3URL: http://www.national.com/packaging/folders/mf05a.html
footprint MF05A_N (SOT23, 5-Leads, Body 2.9x1.6mm, Pitch 0.95mm, Lead Span 2.8mm, IPC Medium Density)
footprint MF05A_L (SOT23, 5-Leads, Body 2.9x1.6mm, Pitch 0.95mm, Lead Span 2.8mm, IPC High Density)
footprint MF05A_M (SOT23, 5-Leads, Body 2.9x1.6mm, Pitch 0.95mm, Lead Span 2.8mm, IPC Low Density)
pins: 1 NC, 2 GND (power), 3 EN (in), 4 IN (power), 5 VREF (power)

## LM4128AMF-3.0
designator U?
Precision Micropower Series Voltage Reference, 5-pin SOT-23; PartNumber: LM4128AMF-3.0; Manufacturer: National Semiconductor; PackageTopMarking: R5DA*XTT; PowerWise: Y; CompType: Voltage Reference IC; Published: 4-Dec-2008; DatasheetVersion: Nov-2006; PackageVersion: revD, Aug-2008; PackageReference: MF05A; Publisher: Altium Limited; PackageDescription: Molded SOT-23, .115 x .063 x .040 in Body, 5 Lead, .0375 in Pitch; RoHS: N; PinCount: 5; ComponentLink1Description: LM4128 Datasheet; ComponentLink1URL: http://www.national.com/ds/LM/LM4128.pdf; ComponentLink2Description: LM4128 Web Page; ComponentLink2URL: http://www.national.com/pf/LM/LM4128.html; ComponentLink3Description: MF05A Package Page; ComponentLink3URL: http://www.national.com/packaging/folders/mf05a.html
footprint MF05A_N (SOT23, 5-Leads, Body 2.9x1.6mm, Pitch 0.95mm, Lead Span 2.8mm, IPC Medium Density)
footprint MF05A_L (SOT23, 5-Leads, Body 2.9x1.6mm, Pitch 0.95mm, Lead Span 2.8mm, IPC High Density)
footprint MF05A_M (SOT23, 5-Leads, Body 2.9x1.6mm, Pitch 0.95mm, Lead Span 2.8mm, IPC Low Density)
pins: 1 NC, 2 GND (power), 3 EN (in), 4 IN (power), 5 VREF (power)

## LM4128AMF-3.0/NOPB
designator U?
Precision Micropower Series Voltage Reference, 5-pin SOT-23, Pb-Free; PartNumber: LM4128AMF-3.0/NOPB; Manufacturer: National Semiconductor; PackageTopMarking: R5DA*XTT; PowerWise: Y; CompType: Voltage Reference IC; Published: 1-Mar-2010; DatasheetVersion: Nov-2006; PackageVersion: revD, Aug-2008; PackageReference: MF05A; Publisher: Altium Limited; PackageDescription: Molded SOT-23, .115 x .063 x .040 in Body, 5 Lead, .0375 in Pitch; Supplier 1: Digi-Key; Supplier Part Number 1: LM4128AMF-3.0TR-ND; Supplier 2: Digi-Key; Supplier Part Number 2: LM4128AMF-3.0CT-ND; Supplier 3: Digi-Key; Supplier Part Number 3: LM4128AMF-3.0DKR-ND; Supplier 4: Farnell; Supplier Part Number 4: 1694488; RoHS: Y; PinCount: 5; ComponentLink1Description: LM4128 Datasheet; ComponentLink1URL: http://www.national.com/ds/LM/LM4128.pdf; ComponentLink2Description: LM4128 Web Page; ComponentLink2URL: http://www.national.com/pf/LM/LM4128.html; ComponentLink3Description: MF05A Package Page; ComponentLink3URL: http://www.national.com/packaging/folders/mf05a.html
footprint MF05A_N (SOT23, 5-Leads, Body 2.9x1.6mm, Pitch 0.95mm, Lead Span 2.8mm, IPC Medium Density)
footprint MF05A_L (SOT23, 5-Leads, Body 2.9x1.6mm, Pitch 0.95mm, Lead Span 2.8mm, IPC High Density)
footprint MF05A_M (SOT23, 5-Leads, Body 2.9x1.6mm, Pitch 0.95mm, Lead Span 2.8mm, IPC Low Density)
pins: 1 NC, 2 GND (power), 3 EN (in), 4 IN (power), 5 VREF (power)

## LM4128AMF-3.3
designator U?
Precision Micropower Series Voltage Reference, 5-pin SOT-23; PartNumber: LM4128AMF-3.3; Manufacturer: National Semiconductor; PackageTopMarking: R5EA*XTT; PowerWise: Y; CompType: Voltage Reference IC; Published: 4-Dec-2008; DatasheetVersion: Nov-2006; PackageVersion: revD, Aug-2008; PackageReference: MF05A; Publisher: Altium Limited; PackageDescription: Molded SOT-23, .115 x .063 x .040 in Body, 5 Lead, .0375 in Pitch; RoHS: N; PinCount: 5; ComponentLink1Description: LM4128 Datasheet; ComponentLink1URL: http://www.national.com/ds/LM/LM4128.pdf; ComponentLink2Description: LM4128 Web Page; ComponentLink2URL: http://www.national.com/pf/LM/LM4128.html; ComponentLink3Description: MF05A Package Page; ComponentLink3URL: http://www.national.com/packaging/folders/mf05a.html
footprint MF05A_N (SOT23, 5-Leads, Body 2.9x1.6mm, Pitch 0.95mm, Lead Span 2.8mm, IPC Medium Density)
footprint MF05A_L (SOT23, 5-Leads, Body 2.9x1.6mm, Pitch 0.95mm, Lead Span 2.8mm, IPC High Density)
footprint MF05A_M (SOT23, 5-Leads, Body 2.9x1.6mm, Pitch 0.95mm, Lead Span 2.8mm, IPC Low Density)
pins: 1 NC, 2 GND (power), 3 EN (in), 4 IN (power), 5 VREF (power)

## LM4128AMF-3.3/NOPB
designator U?
Precision Micropower Series Voltage Reference, 5-pin SOT-23, Pb-Free; PartNumber: LM4128AMF-3.3/NOPB; Manufacturer: National Semiconductor; PackageTopMarking: R5EA*XTT; PowerWise: Y; CompType: Voltage Reference IC; Published: 1-Mar-2010; DatasheetVersion: Nov-2006; PackageVersion: revD, Aug-2008; PackageReference: MF05A; Publisher: Altium Limited; PackageDescription: Molded SOT-23, .115 x .063 x .040 in Body, 5 Lead, .0375 in Pitch; Supplier 1: Digi-Key; Supplier Part Number 1: LM4128AMF-3.3TR-ND; Supplier 2: Digi-Key; Supplier Part Number 2: LM4128AMF-3.3CT-ND; Supplier 3: Digi-Key; Supplier Part Number 3: LM4128AMF-3.3DKR-ND; Supplier 4: Farnell; Supplier Part Number 4: 1694489; RoHS: Y; PinCount: 5; ComponentLink1Description: LM4128 Datasheet; ComponentLink1URL: http://www.national.com/ds/LM/LM4128.pdf; ComponentLink2Description: LM4128 Web Page; ComponentLink2URL: http://www.national.com/pf/LM/LM4128.html; ComponentLink3Description: MF05A Package Page; ComponentLink3URL: http://www.national.com/packaging/folders/mf05a.html
footprint MF05A_N (SOT23, 5-Leads, Body 2.9x1.6mm, Pitch 0.95mm, Lead Span 2.8mm, IPC Medium Density)
footprint MF05A_L (SOT23, 5-Leads, Body 2.9x1.6mm, Pitch 0.95mm, Lead Span 2.8mm, IPC High Density)
footprint MF05A_M (SOT23, 5-Leads, Body 2.9x1.6mm, Pitch 0.95mm, Lead Span 2.8mm, IPC Low Density)
pins: 1 NC, 2 GND (power), 3 EN (in), 4 IN (power), 5 VREF (power)

## LM4128AMF-4.1
designator U?
Precision Micropower Series Voltage Reference, 5-pin SOT-23; PartNumber: LM4128AMF-4.1; Manufacturer: National Semiconductor; PackageTopMarking: R5FA*XTT; PowerWise: Y; CompType: Voltage Reference IC; Published: 4-Dec-2008; DatasheetVersion: Nov-2006; PackageVersion: revD, Aug-2008; PackageReference: MF05A; Publisher: Altium Limited; PackageDescription: Molded SOT-23, .115 x .063 x .040 in Body, 5 Lead, .0375 in Pitch; RoHS: N; PinCount: 5; ComponentLink1Description: LM4128 Datasheet; ComponentLink1URL: http://www.national.com/ds/LM/LM4128.pdf; ComponentLink2Description: LM4128 Web Page; ComponentLink2URL: http://www.national.com/pf/LM/LM4128.html; ComponentLink3Description: MF05A Package Page; ComponentLink3URL: http://www.national.com/packaging/folders/mf05a.html
footprint MF05A_N (SOT23, 5-Leads, Body 2.9x1.6mm, Pitch 0.95mm, Lead Span 2.8mm, IPC Medium Density)
footprint MF05A_L (SOT23, 5-Leads, Body 2.9x1.6mm, Pitch 0.95mm, Lead Span 2.8mm, IPC High Density)
footprint MF05A_M (SOT23, 5-Leads, Body 2.9x1.6mm, Pitch 0.95mm, Lead Span 2.8mm, IPC Low Density)
pins: 1 NC, 2 GND (power), 3 EN (in), 4 IN (power), 5 VREF (power)

## LM4128AMF-4.1/NOPB
designator U?
Precision Micropower Series Voltage Reference, 5-pin SOT-23, Pb-Free; PartNumber: LM4128AMF-4.1/NOPB; Manufacturer: National Semiconductor; PackageTopMarking: R5FA*XTT; PowerWise: Y; CompType: Voltage Reference IC; Published: 1-Mar-2010; DatasheetVersion: Nov-2006; PackageVersion: revD, Aug-2008; PackageReference: MF05A; Publisher: Altium Limited; PackageDescription: Molded SOT-23, .115 x .063 x .040 in Body, 5 Lead, .0375 in Pitch; Supplier 1: Digi-Key; Supplier Part Number 1: LM4128AMF-4.1TR-ND; Supplier 2: Digi-Key; Supplier Part Number 2: LM4128AMF-4.1CT-ND; Supplier 3: Digi-Key; Supplier Part Number 3: LM4128AMF-4.1DKR-ND; Supplier 4: Farnell; Supplier Part Number 4: 1673955; RoHS: Y; PinCount: 5; ComponentLink1Description: LM4128 Datasheet; ComponentLink1URL: http://www.national.com/ds/LM/LM4128.pdf; ComponentLink2Description: LM4128 Web Page; ComponentLink2URL: http://www.national.com/pf/LM/LM4128.html; ComponentLink3Description: MF05A Package Page; ComponentLink3URL: http://www.national.com/packaging/folders/mf05a.html
footprint MF05A_N (SOT23, 5-Leads, Body 2.9x1.6mm, Pitch 0.95mm, Lead Span 2.8mm, IPC Medium Density)
footprint MF05A_L (SOT23, 5-Leads, Body 2.9x1.6mm, Pitch 0.95mm, Lead Span 2.8mm, IPC High Density)
footprint MF05A_M (SOT23, 5-Leads, Body 2.9x1.6mm, Pitch 0.95mm, Lead Span 2.8mm, IPC Low Density)
pins: 1 NC, 2 GND (power), 3 EN (in), 4 IN (power), 5 VREF (power)

## LM4128AMFX-1.8/NOPB
designator U?
Precision Micropower Series Voltage Reference, 5-pin SOT-23, Pb-Free; PartNumber: LM4128AMFX-1.8/NOPB; Manufacturer: National Semiconductor; PackageTopMarking: R5AA*XTT; PowerWise: Y; CompType: Voltage Reference IC; Published: 1-Mar-2010; DatasheetVersion: Nov-2006; PackageVersion: revD, Aug-2008; PackageReference: MF05A; Publisher: Altium Limited; PackageDescription: Molded SOT-23, .115 x .063 x .040 in Body, 5 Lead, .0375 in Pitch; Supplier 1: Digi-Key; Supplier Part Number 1: LM4128AMFX-1.8-ND; RoHS: Y; PinCount: 5; ComponentLink1Description: LM4128 Datasheet; ComponentLink1URL: http://www.national.com/ds/LM/LM4128.pdf; ComponentLink2Description: LM4128 Web Page; ComponentLink2URL: http://www.national.com/pf/LM/LM4128.html; ComponentLink3Description: MF05A Package Page; ComponentLink3URL: http://www.national.com/packaging/folders/mf05a.html
footprint MF05A_N (SOT23, 5-Leads, Body 2.9x1.6mm, Pitch 0.95mm, Lead Span 2.8mm, IPC Medium Density)
footprint MF05A_L (SOT23, 5-Leads, Body 2.9x1.6mm, Pitch 0.95mm, Lead Span 2.8mm, IPC High Density)
footprint MF05A_M (SOT23, 5-Leads, Body 2.9x1.6mm, Pitch 0.95mm, Lead Span 2.8mm, IPC Low Density)
pins: 1 NC, 2 GND (power), 3 EN (in), 4 IN (power), 5 VREF (power)

## LM4128AMFX-2.0
designator U?
Precision Micropower Series Voltage Reference, 5-pin SOT-23; PartNumber: LM4128AMFX-2.0; Manufacturer: National Semiconductor; PackageTopMarking: R5BA*XTT; PowerWise: Y; CompType: Voltage Reference IC; Published: 1-Mar-2010; DatasheetVersion: Nov-2006; PackageVersion: revD, Aug-2008; PackageReference: MF05A; Publisher: Altium Limited; PackageDescription: Molded SOT-23, .115 x .063 x .040 in Body, 5 Lead, .0375 in Pitch; RoHS: N; PinCount: 5; ComponentLink1Description: LM4128 Datasheet; ComponentLink1URL: http://www.national.com/ds/LM/LM4128.pdf; ComponentLink2Description: LM4128 Web Page; ComponentLink2URL: http://www.national.com/pf/LM/LM4128.html; ComponentLink3Description: MF05A Package Page; ComponentLink3URL: http://www.national.com/packaging/folders/mf05a.html
footprint MF05A_N (SOT23, 5-Leads, Body 2.9x1.6mm, Pitch 0.95mm, Lead Span 2.8mm, IPC Medium Density)
footprint MF05A_L (SOT23, 5-Leads, Body 2.9x1.6mm, Pitch 0.95mm, Lead Span 2.8mm, IPC High Density)
footprint MF05A_M (SOT23, 5-Leads, Body 2.9x1.6mm, Pitch 0.95mm, Lead Span 2.8mm, IPC Low Density)
pins: 1 NC, 2 GND (power), 3 EN (in), 4 IN (power), 5 VREF (power)

## LM4128AMFX-2.0/NOPB
designator U?
Precision Micropower Series Voltage Reference, 5-pin SOT-23, Pb-Free; PartNumber: LM4128AMFX-2.0/NOPB; Manufacturer: National Semiconductor; PackageTopMarking: R5BA*XTT; PowerWise: Y; CompType: Voltage Reference IC; Published: 1-Mar-2010; DatasheetVersion: Nov-2006; PackageVersion: revD, Aug-2008; PackageReference: MF05A; Publisher: Altium Limited; PackageDescription: Molded SOT-23, .115 x .063 x .040 in Body, 5 Lead, .0375 in Pitch; Supplier 1: Digi-Key; Supplier Part Number 1: LM4128AMFX-2.0-ND; RoHS: Y; PinCount: 5; ComponentLink1Description: LM4128 Datasheet; ComponentLink1URL: http://www.national.com/ds/LM/LM4128.pdf; ComponentLink2Description: LM4128 Web Page; ComponentLink2URL: http://www.national.com/pf/LM/LM4128.html; ComponentLink3Description: MF05A Package Page; ComponentLink3URL: http://www.national.com/packaging/folders/mf05a.html
footprint MF05A_N (SOT23, 5-Leads, Body 2.9x1.6mm, Pitch 0.95mm, Lead Span 2.8mm, IPC Medium Density)
footprint MF05A_L (SOT23, 5-Leads, Body 2.9x1.6mm, Pitch 0.95mm, Lead Span 2.8mm, IPC High Density)
footprint MF05A_M (SOT23, 5-Leads, Body 2.9x1.6mm, Pitch 0.95mm, Lead Span 2.8mm, IPC Low Density)
pins: 1 NC, 2 GND (power), 3 EN (in), 4 IN (power), 5 VREF (power)

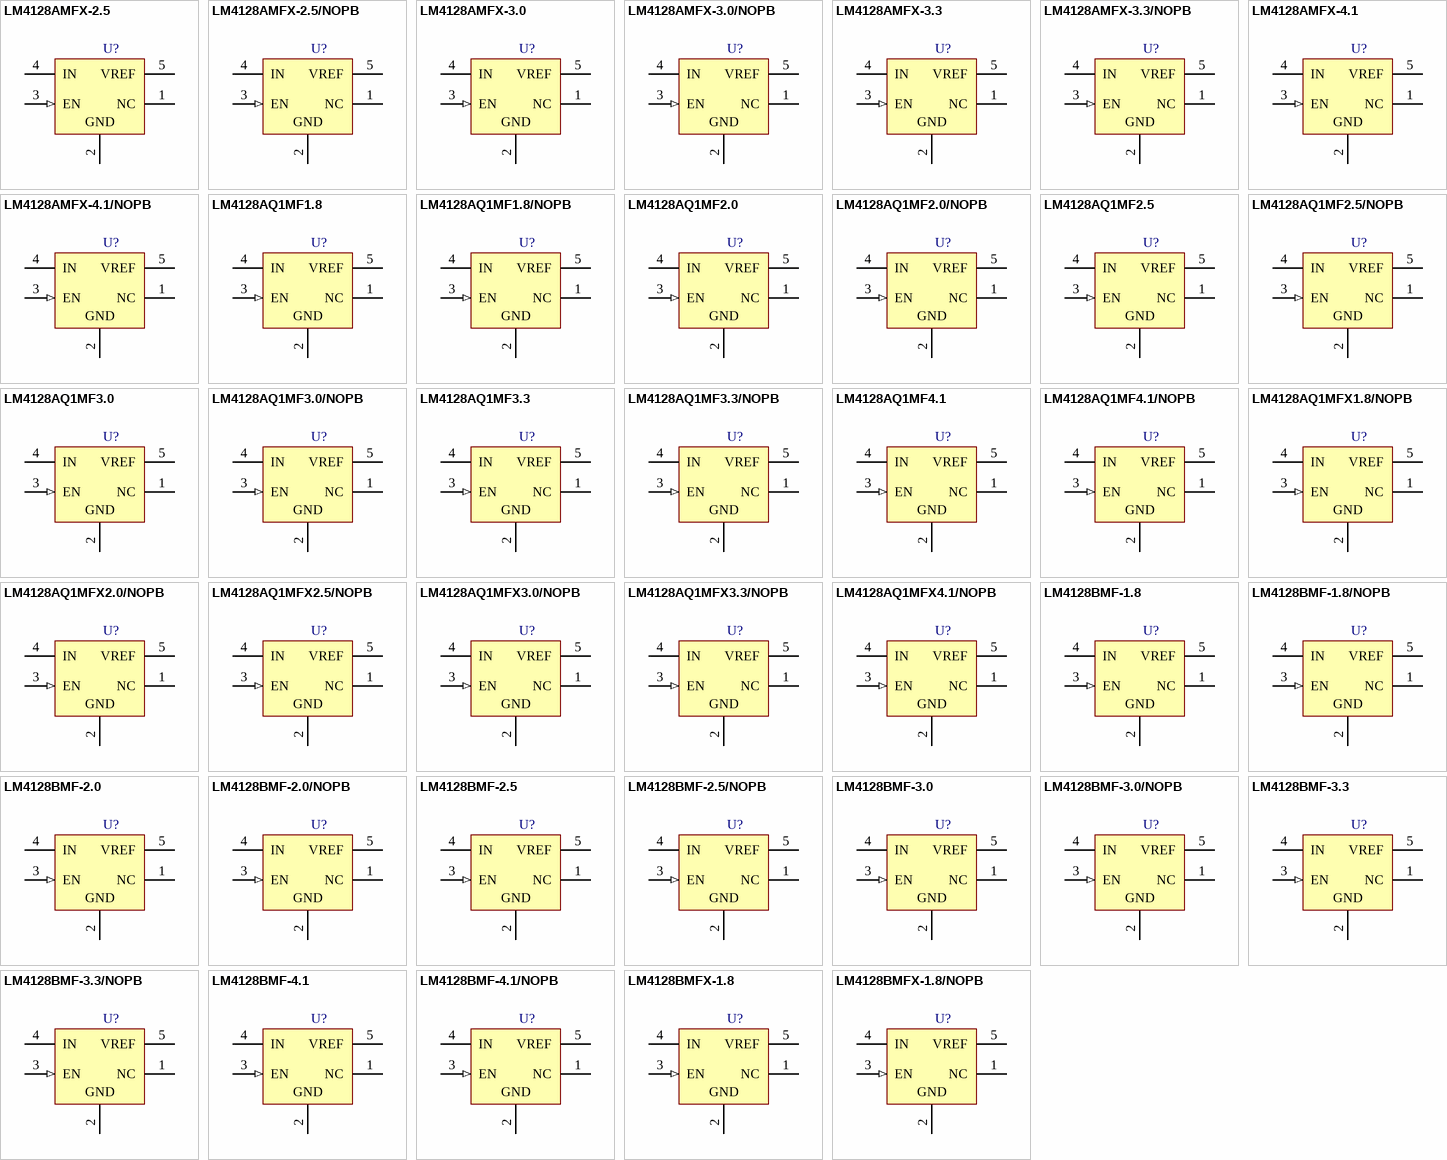
[diagram p13: symbols LM4128AMFX-2.5 to LM4128BMFX-1.8/NOPB]

## LM4128AMFX-2.5
designator U?
Precision Micropower Series Voltage Reference, 5-pin SOT-23; PartNumber: LM4128AMFX-2.5; Manufacturer: National Semiconductor; PackageTopMarking: R5CA*XTT; PowerWise: Y; CompType: Voltage Reference IC; Published: 1-Mar-2010; DatasheetVersion: Nov-2006; PackageVersion: revD, Aug-2008; PackageReference: MF05A; Publisher: Altium Limited; PackageDescription: Molded SOT-23, .115 x .063 x .040 in Body, 5 Lead, .0375 in Pitch; RoHS: N; PinCount: 5; ComponentLink1Description: LM4128 Datasheet; ComponentLink1URL: http://www.national.com/ds/LM/LM4128.pdf; ComponentLink2Description: LM4128 Web Page; ComponentLink2URL: http://www.national.com/pf/LM/LM4128.html; ComponentLink3Description: MF05A Package Page; ComponentLink3URL: http://www.national.com/packaging/folders/mf05a.html
footprint MF05A_N (SOT23, 5-Leads, Body 2.9x1.6mm, Pitch 0.95mm, Lead Span 2.8mm, IPC Medium Density)
footprint MF05A_L (SOT23, 5-Leads, Body 2.9x1.6mm, Pitch 0.95mm, Lead Span 2.8mm, IPC High Density)
footprint MF05A_M (SOT23, 5-Leads, Body 2.9x1.6mm, Pitch 0.95mm, Lead Span 2.8mm, IPC Low Density)
pins: 1 NC, 2 GND (power), 3 EN (in), 4 IN (power), 5 VREF (power)

## LM4128AMFX-2.5/NOPB
designator U?
Precision Micropower Series Voltage Reference, 5-pin SOT-23, Pb-Free; PartNumber: LM4128AMFX-2.5/NOPB; Manufacturer: National Semiconductor; PackageTopMarking: R5CA*XTT; PowerWise: Y; CompType: Voltage Reference IC; Published: 1-Mar-2010; DatasheetVersion: Nov-2006; PackageVersion: revD, Aug-2008; PackageReference: MF05A; Publisher: Altium Limited; PackageDescription: Molded SOT-23, .115 x .063 x .040 in Body, 5 Lead, .0375 in Pitch; Supplier 1: Digi-Key; Supplier Part Number 1: LM4128AMFX-2.5-ND; RoHS: Y; PinCount: 5; ComponentLink1Description: LM4128 Datasheet; ComponentLink1URL: http://www.national.com/ds/LM/LM4128.pdf; ComponentLink2Description: LM4128 Web Page; ComponentLink2URL: http://www.national.com/pf/LM/LM4128.html; ComponentLink3Description: MF05A Package Page; ComponentLink3URL: http://www.national.com/packaging/folders/mf05a.html
footprint MF05A_N (SOT23, 5-Leads, Body 2.9x1.6mm, Pitch 0.95mm, Lead Span 2.8mm, IPC Medium Density)
footprint MF05A_L (SOT23, 5-Leads, Body 2.9x1.6mm, Pitch 0.95mm, Lead Span 2.8mm, IPC High Density)
footprint MF05A_M (SOT23, 5-Leads, Body 2.9x1.6mm, Pitch 0.95mm, Lead Span 2.8mm, IPC Low Density)
pins: 1 NC, 2 GND (power), 3 EN (in), 4 IN (power), 5 VREF (power)

## LM4128AMFX-3.0
designator U?
Precision Micropower Series Voltage Reference, 5-pin SOT-23; PartNumber: LM4128AMFX-3.0; Manufacturer: National Semiconductor; PackageTopMarking: R5DA*XTT; PowerWise: Y; CompType: Voltage Reference IC; Published: 1-Mar-2010; DatasheetVersion: Nov-2006; PackageVersion: revD, Aug-2008; PackageReference: MF05A; Publisher: Altium Limited; PackageDescription: Molded SOT-23, .115 x .063 x .040 in Body, 5 Lead, .0375 in Pitch; RoHS: N; PinCount: 5; ComponentLink1Description: LM4128 Datasheet; ComponentLink1URL: http://www.national.com/ds/LM/LM4128.pdf; ComponentLink2Description: LM4128 Web Page; ComponentLink2URL: http://www.national.com/pf/LM/LM4128.html; ComponentLink3Description: MF05A Package Page; ComponentLink3URL: http://www.national.com/packaging/folders/mf05a.html
footprint MF05A_N (SOT23, 5-Leads, Body 2.9x1.6mm, Pitch 0.95mm, Lead Span 2.8mm, IPC Medium Density)
footprint MF05A_L (SOT23, 5-Leads, Body 2.9x1.6mm, Pitch 0.95mm, Lead Span 2.8mm, IPC High Density)
footprint MF05A_M (SOT23, 5-Leads, Body 2.9x1.6mm, Pitch 0.95mm, Lead Span 2.8mm, IPC Low Density)
pins: 1 NC, 2 GND (power), 3 EN (in), 4 IN (power), 5 VREF (power)

## LM4128AMFX-3.0/NOPB
designator U?
Precision Micropower Series Voltage Reference, 5-pin SOT-23, Pb-Free; PartNumber: LM4128AMFX-3.0/NOPB; Manufacturer: National Semiconductor; PackageTopMarking: R5DA*XTT; PowerWise: Y; CompType: Voltage Reference IC; Published: 1-Mar-2010; DatasheetVersion: Nov-2006; PackageVersion: revD, Aug-2008; PackageReference: MF05A; Publisher: Altium Limited; PackageDescription: Molded SOT-23, .115 x .063 x .040 in Body, 5 Lead, .0375 in Pitch; Supplier 1: Digi-Key; Supplier Part Number 1: LM4128AMFX-3.0-ND; RoHS: Y; PinCount: 5; ComponentLink1Description: LM4128 Datasheet; ComponentLink1URL: http://www.national.com/ds/LM/LM4128.pdf; ComponentLink2Description: LM4128 Web Page; ComponentLink2URL: http://www.national.com/pf/LM/LM4128.html; ComponentLink3Description: MF05A Package Page; ComponentLink3URL: http://www.national.com/packaging/folders/mf05a.html
footprint MF05A_N (SOT23, 5-Leads, Body 2.9x1.6mm, Pitch 0.95mm, Lead Span 2.8mm, IPC Medium Density)
footprint MF05A_L (SOT23, 5-Leads, Body 2.9x1.6mm, Pitch 0.95mm, Lead Span 2.8mm, IPC High Density)
footprint MF05A_M (SOT23, 5-Leads, Body 2.9x1.6mm, Pitch 0.95mm, Lead Span 2.8mm, IPC Low Density)
pins: 1 NC, 2 GND (power), 3 EN (in), 4 IN (power), 5 VREF (power)

## LM4128AMFX-3.3
designator U?
Precision Micropower Series Voltage Reference, 5-pin SOT-23; PartNumber: LM4128AMFX-3.3; Manufacturer: National Semiconductor; PackageTopMarking: R5EA*XTT; PowerWise: Y; CompType: Voltage Reference IC; Published: 1-Mar-2010; DatasheetVersion: Nov-2006; PackageVersion: revD, Aug-2008; PackageReference: MF05A; Publisher: Altium Limited; PackageDescription: Molded SOT-23, .115 x .063 x .040 in Body, 5 Lead, .0375 in Pitch; RoHS: N; PinCount: 5; ComponentLink1Description: LM4128 Datasheet; ComponentLink1URL: http://www.national.com/ds/LM/LM4128.pdf; ComponentLink2Description: LM4128 Web Page; ComponentLink2URL: http://www.national.com/pf/LM/LM4128.html; ComponentLink3Description: MF05A Package Page; ComponentLink3URL: http://www.national.com/packaging/folders/mf05a.html
footprint MF05A_N (SOT23, 5-Leads, Body 2.9x1.6mm, Pitch 0.95mm, Lead Span 2.8mm, IPC Medium Density)
footprint MF05A_L (SOT23, 5-Leads, Body 2.9x1.6mm, Pitch 0.95mm, Lead Span 2.8mm, IPC High Density)
footprint MF05A_M (SOT23, 5-Leads, Body 2.9x1.6mm, Pitch 0.95mm, Lead Span 2.8mm, IPC Low Density)
pins: 1 NC, 2 GND (power), 3 EN (in), 4 IN (power), 5 VREF (power)